# EAGLE library part XC9572/44 (library Xilinx)
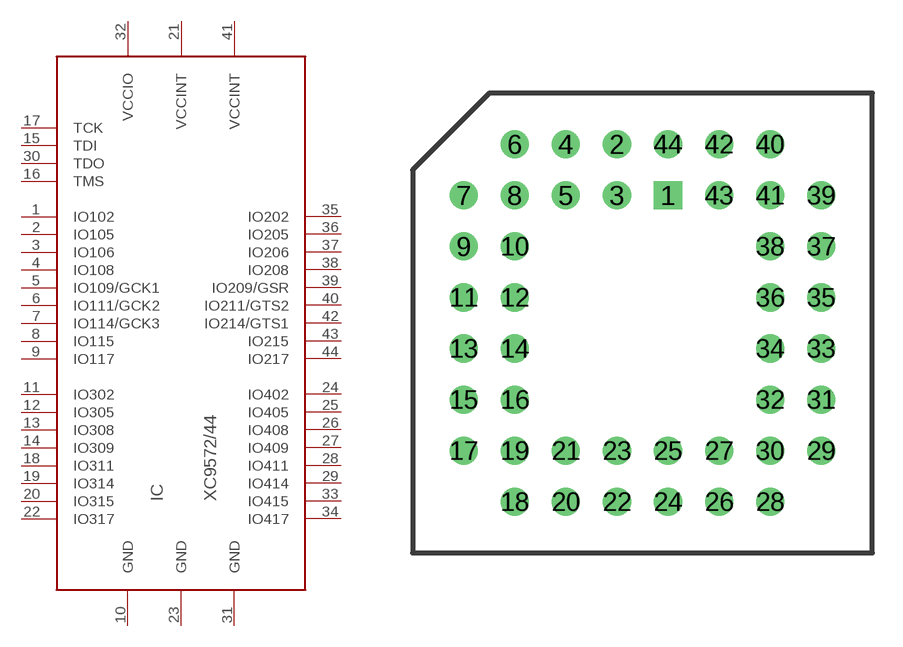
[diagram p2: symbol with the pads of PLCC-44T; footprint PLCC-44T]

Designator prefix IC

## XC9572/44-PC44  [PLCC-44T]
1  IO102
2  IO105
3  IO106
4  IO108
5  IO109/GCK1
6  IO111/GCK2
7  IO114/GCK3
8  IO115
9  IO117
10  GND  pwr
11  IO302
12  IO305
13  IO308
14  IO309
15  TDI  in
16  TMS  in
17  TCK  in
18  IO311
19  IO314
20  IO315
21  VCCINT  pwr
22  IO317
23  GND  pwr
24  IO402
25  IO405
26  IO408
27  IO409
28  IO411
29  IO414
30  TDO  out
31  GND  pwr
32  VCCIO  pwr
33  IO415
34  IO417
35  IO202
36  IO205
37  IO206
38  IO208
39  IO209/GSR
40  IO211/GTS2
41  VCCINT  pwr
42  IO214/GTS1
43  IO215
44  IO217

## Footprint PLCC-44T (pad centres in mm)
44 pin PLCC, through hole socket
drill 0.889 square: 1 1.27,6.35
drill 0.889 round: 2 -1.27,8.89; 3 -1.27,6.35; 4 -3.81,8.89; 5 -3.81,6.35; 6 -6.35,8.89; 7 -8.89,6.35; 8 -6.35,6.35; 9 -8.89,3.81; 10 -6.35,3.81; 11 -8.89,1.27; 12 -6.35,1.27; 13 -8.89,-1.27; 14 -6.35,-1.27; 15 -8.89,-3.81; 16 -6.35,-3.81; 17 -8.89,-6.35; 18 -6.35,-8.89; 19 -6.35,-6.35; 20 -3.81,-8.89; 21 -3.81,-6.35; 22 -1.27,-8.89; 23 -1.27,-6.35; 24 1.27,-8.89; 25 1.27,-6.35; 26 3.81,-8.89; 27 3.81,-6.35; 28 6.35,-8.89; 29 8.89,-6.35; 30 6.35,-6.35; 31 8.89,-3.81; 32 6.35,-3.81; 33 8.89,-1.27; 34 6.35,-1.27; 35 8.89,1.27; 36 6.35,1.27; 37 8.89,3.81; 38 6.35,3.81; 39 8.89,6.35; 40 6.35,8.89; 41 6.35,6.35; 42 3.81,8.89; 43 3.81,6.35; 44 1.27,8.89